# Altium integrated library 450V_330.IntLib: 1 symbol
Pins are listed as number, name and electrical type; pins without a type are passive.

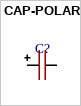
[diagram p0: symbol CAP-POLAR]

## CAP-POLAR
designator C?
footprint 330_450
pins: 1 +, 2 -